# EAGLE library part SCD30 (library SCD30)
SCD30 Series 5.5 V 75 mA ±3% Carbon Dioxide (CO2) Sensor Module Check availability <https://pricing.snapeda.com/parts/SCD30/Sensirion%20AG/view-part?ref=eda>
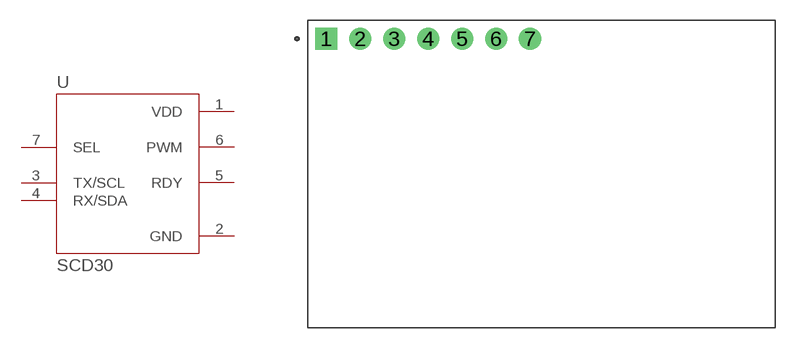
[diagram p0: symbol with the pads of MODULE_SCD30; footprint MODULE_SCD30]

Designator prefix U

## SCD30 (AVAILABILITY: In Stock; CHECK_PRICES: https://www.snapeda.com/parts/SCD30/Sensirion+AG/view-part/?ref=eda; DESCRIPTION: Carbon Dioxide (CO2), Humidity, Temperature Sensor I2C, Modbus, PWM; MF: Sensirion AG; MP: SCD30; PACKAGE: None; PRICE: None; PURCHASE-URL: https://www.snapeda.com/api/url_track_click_mouser/?unipart_id=2779194&manufacturer=Sensirion AG&part_name=SCD30&search_term=None; SNAPEDA_LINK: https://www.snapeda.com/parts/SCD30/Sensirion+AG/view-part/?ref=snap)  [MODULE_SCD30]
1  VDD  pwr
2  GND  pwr
3  TX/SCL
4  RX/SDA
5  RDY
6  PWM  out
7  SEL  in

## Footprint MODULE_SCD30 (pad centres in mm)
drill 1.1 square: 1 -16.1,10.1
drill 1.1: 2 -13.56,10.1; 3 -11.02,10.1; 4 -8.48,10.1; 5 -5.94,10.1; 6 -3.4,10.1; 7 -0.86,10.1